# Altium schematic symbol library kmilo17pet-LT_OpAmp_LT1000.SchLib: 2280 symbols (part 15 of 79)
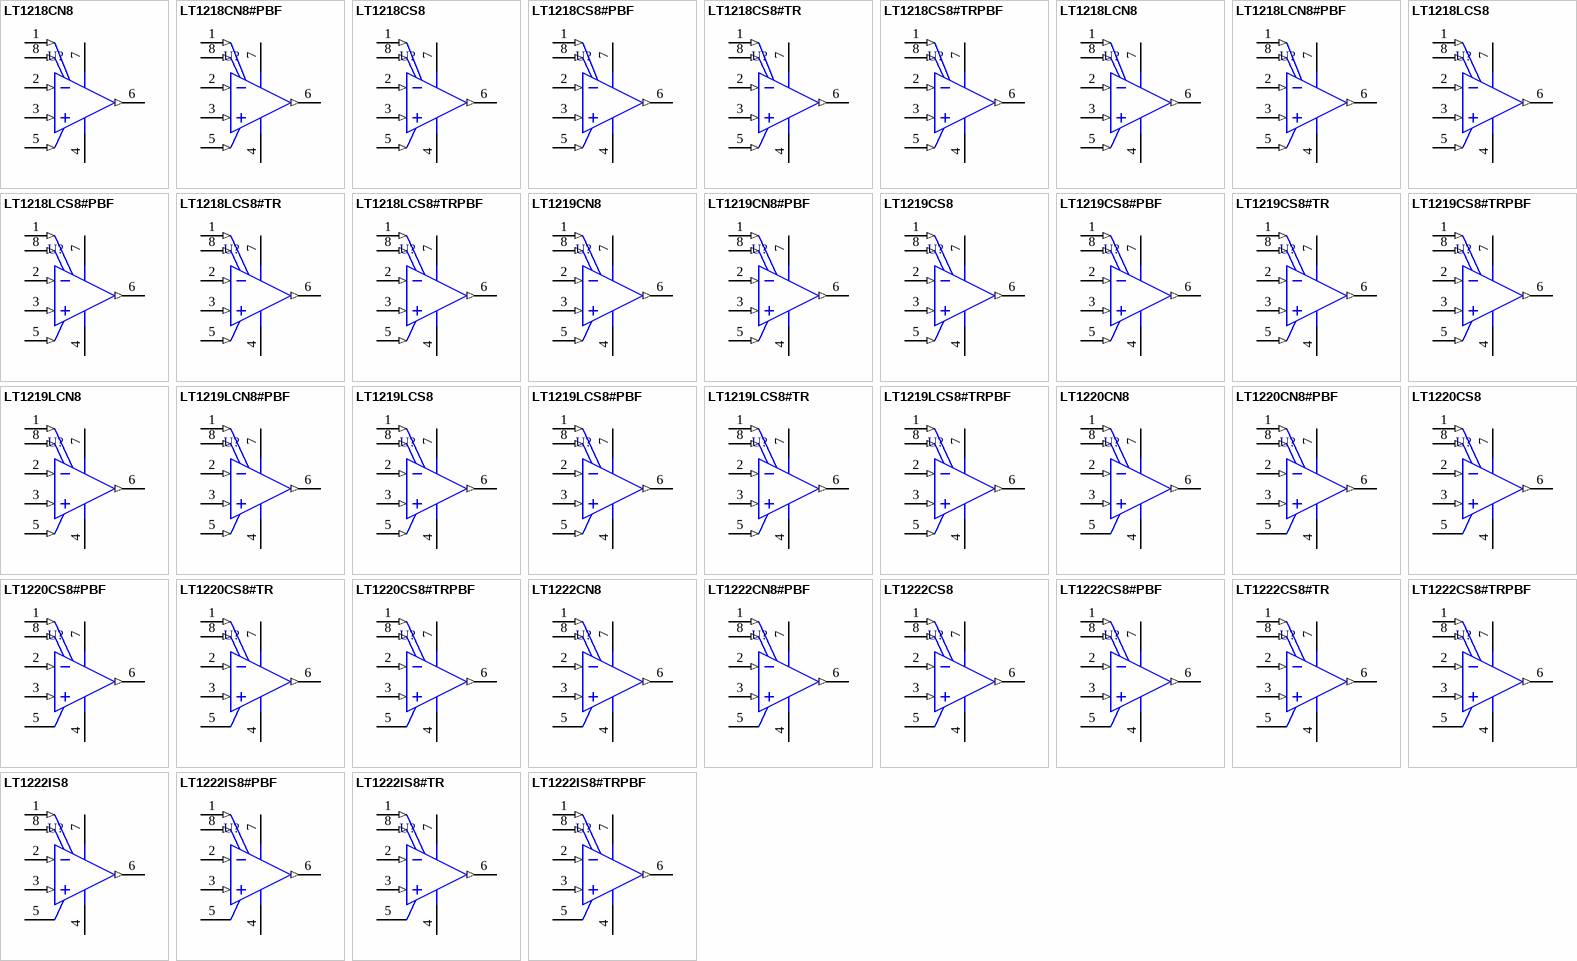
[diagram p119: symbols LT1218CN8 to LT1222IS8#TRPBF]

## LT1222CN8
designator U?
Single Channel, Fast Setting Time, High Speed Operational Amplifier, Gain >10, 500 MHz Typical GBW, 200 V/us Typical SR, 5 to 36 V, 8-Pin DIP (N8-8), Commercial; Linear Technology Part Number: LT1222; Manufacturer: Linear Technology; PartNumber: LT1222CN8; Channels (#): 1; GBW (MHz) Typical: 500; Is (mA) Typical: 8; SR (V/us) Typical: 200; Vos (mV) Typical: 0.1; Vs Max (V): 36; Vs Min (V): 5; DatasheetVersion: Rev. C; PackageVersion: Rev I; PackageReference: LT-N8-8; PackageDescription: 8-Lead PDIP, Body 10.16 x 6.48 mm, Pitch 2.54 mm; Supplier 1: Digi-Key; Supplier Part Number 1: LT1222CN8-ND; Type: VFB; Mounting Technology: Surface Mount; ComponentLink1Description: Manufacturer URL; ComponentLink1URL: http://www.linear.com/; ComponentLink2Description: Datasheet; ComponentLink2URL: http://cds.linear.com/docs/en/datasheet/1222fc.pdf; ComponentLink3Description: Package Specification; ComponentLink3URL: http://cds.linear.com/docs/en/packaging/05081510_I_N8.pdf
footprint LT-N8-8 (DIP, 8-Leads, Body 10.16x6.48mm, Pitch 2.54mm)
pins: 1 NULL (in), 2 -IN (in), 3 +IN (in), 4 V- (power), 5 COMP, 6 VOUT (out), 7 V+ (power), 8 NULL (in)

## LT1222CN8#PBF
designator U?
Single Channel, Fast Setting Time, High Speed Operational Amplifier, Gain >10, 500 MHz Typical GBW, 200 V/us Typical SR, 5 to 36 V, 8-Pin DIP (N8-8), Commercial, Pb-Free; Linear Technology Part Number: LT1222; Manufacturer: Linear Technology; PartNumber: LT1222CN8#PBF; Channels (#): 1; GBW (MHz) Typical: 500; Is (mA) Typical: 8; SR (V/us) Typical: 200; Vos (mV) Typical: 0.1; Vs Max (V): 36; Vs Min (V): 5; DatasheetVersion: Rev. C; PackageVersion: Rev I; PackageReference: LT-N8-8; PackageDescription: 8-Lead PDIP, Body 10.16 x 6.48 mm, Pitch 2.54 mm; Supplier 1: Digi-Key; Supplier Part Number 1: LT1222CN8#PBF-ND; Supplier 2: Farnell; Supplier Part Number 2: 1330620; Supplier 3: Newark; Supplier Part Number 3: 57M2803; RoHS: Pb-Free; Type: VFB; Mounting Technology: Through Hole; ComponentLink1Description: Manufacturer URL; ComponentLink1URL: http://www.linear.com/; ComponentLink2Description: Datasheet; ComponentLink2URL: http://cds.linear.com/docs/en/datasheet/1222fc.pdf; ComponentLink3Description: Package Specification; ComponentLink3URL: http://cds.linear.com/docs/en/packaging/05081510_I_N8.pdf
footprint LT-N8-8 (DIP, 8-Leads, Body 10.16x6.48mm, Pitch 2.54mm)
pins: 1 NULL (in), 2 -IN (in), 3 +IN (in), 4 V- (power), 5 COMP, 6 VOUT (out), 7 V+ (power), 8 NULL (in)

## LT1222CS8
designator U?
Single Channel, Fast Setting Time, High Speed Operational Amplifier, Gain >10, 500 MHz Typical GBW, 200 V/us Typical SR, 5 to 36 V, 8-Pin SOIC (S8-8), Commercial; Linear Technology Part Number: LT1222; Manufacturer: Linear Technology; PartNumber: LT1222CS8; Channels (#): 1; GBW (MHz) Typical: 500; Is (mA) Typical: 8; SR (V/us) Typical: 200; Vos (mV) Typical: 0.1; Vs Max (V): 36; Vs Min (V): 5; DatasheetVersion: Rev. C; PackageVersion: Rev G; PackageReference: LT-S8-8; PackageDescription: 8-Pin Plastic Small Outline, Body 4.9 x 3.9 mm, Pitch 1.27 mm; Supplier 1: Digi-Key; Supplier Part Number 1: LT1222CS8-ND; Type: VFB; Mounting Technology: Surface Mount; ComponentLink1Description: Manufacturer URL; ComponentLink1URL: http://www.linear.com/; ComponentLink2Description: Datasheet; ComponentLink2URL: http://cds.linear.com/docs/en/datasheet/1222fc.pdf; ComponentLink3Description: Package Specification; ComponentLink3URL: http://cds.linear.com/docs/en/packaging/05081610_G_SO8.pdf
footprint LT-S8-8_N (SOIC, 8-Leads, Body 4.9x3.9mm, Pitch 1.27mm, IPC Medium Density)
footprint LT-S8-8_L (SOIC, 8-Leads, Body 4.9x3.9mm, Pitch 1.27mm, IPC High Density)
footprint LT-S8-8_M (SOIC, 8-Leads, Body 4.9x3.9mm, Pitch 1.27mm, IPC Low Density)
pins: 1 NULL (in), 2 -IN (in), 3 +IN (in), 4 V- (power), 5 COMP, 6 VOUT (out), 7 V+ (power), 8 NULL (in)

## LT1222CS8#PBF
designator U?
Single Channel, Fast Setting Time, High Speed Operational Amplifier, Gain >10, 500 MHz Typical GBW, 200 V/us Typical SR, 5 to 36 V, 8-Pin SOIC (S8-8), Commercial, Pb-Free; Linear Technology Part Number: LT1222; Manufacturer: Linear Technology; PartNumber: LT1222CS8#PBF; Channels (#): 1; GBW (MHz) Typical: 500; Is (mA) Typical: 8; SR (V/us) Typical: 200; Vos (mV) Typical: 0.1; Vs Max (V): 36; Vs Min (V): 5; DatasheetVersion: Rev. C; PackageVersion: Rev G; PackageReference: LT-S8-8; PackageDescription: 8-Pin Plastic Small Outline, Body 4.9 x 3.9 mm, Pitch 1.27 mm; Supplier 1: Digi-Key; Supplier Part Number 1: LT1222CS8#PBF-ND; Supplier 2: Newark; Supplier Part Number 2: 57M2805; RoHS: Pb-Free; Type: VFB; Mounting Technology: Surface Mount; ComponentLink1Description: Manufacturer URL; ComponentLink1URL: http://www.linear.com/; ComponentLink2Description: Datasheet; ComponentLink2URL: http://cds.linear.com/docs/en/datasheet/1222fc.pdf; ComponentLink3Description: Package Specification; ComponentLink3URL: http://cds.linear.com/docs/en/packaging/05081610_G_SO8.pdf
footprint LT-S8-8_N (SOIC, 8-Leads, Body 4.9x3.9mm, Pitch 1.27mm, IPC Medium Density)
footprint LT-S8-8_L (SOIC, 8-Leads, Body 4.9x3.9mm, Pitch 1.27mm, IPC High Density)
footprint LT-S8-8_M (SOIC, 8-Leads, Body 4.9x3.9mm, Pitch 1.27mm, IPC Low Density)
pins: 1 NULL (in), 2 -IN (in), 3 +IN (in), 4 V- (power), 5 COMP, 6 VOUT (out), 7 V+ (power), 8 NULL (in)

## LT1222CS8#TR
designator U?
Single Channel, Fast Setting Time, High Speed Operational Amplifier, Gain >10, 500 MHz Typical GBW, 200 V/us Typical SR, 5 to 36 V, 8-Pin SOIC (S8-8), Commercial, Reel; Linear Technology Part Number: LT1222; Manufacturer: Linear Technology; PartNumber: LT1222CS8#TR; Channels (#): 1; GBW (MHz) Typical: 500; Is (mA) Typical: 8; SR (V/us) Typical: 200; Vos (mV) Typical: 0.1; Vs Max (V): 36; Vs Min (V): 5; DatasheetVersion: Rev. C; PackageVersion: Rev G; PackageReference: LT-S8-8; PackageDescription: 8-Pin Plastic Small Outline, Body 4.9 x 3.9 mm, Pitch 1.27 mm; Supplier 1: Digi-Key; Supplier Part Number 1: LT1222CS8#TR-ND; Packing: Reel; Type: VFB; Mounting Technology: Surface Mount; ComponentLink1Description: Manufacturer URL; ComponentLink1URL: http://www.linear.com/; ComponentLink2Description: Datasheet; ComponentLink2URL: http://cds.linear.com/docs/en/datasheet/1222fc.pdf; ComponentLink3Description: Package Specification; ComponentLink3URL: http://cds.linear.com/docs/en/packaging/05081610_G_SO8.pdf
footprint LT-S8-8_N (SOIC, 8-Leads, Body 4.9x3.9mm, Pitch 1.27mm, IPC Medium Density)
footprint LT-S8-8_L (SOIC, 8-Leads, Body 4.9x3.9mm, Pitch 1.27mm, IPC High Density)
footprint LT-S8-8_M (SOIC, 8-Leads, Body 4.9x3.9mm, Pitch 1.27mm, IPC Low Density)
pins: 1 NULL (in), 2 -IN (in), 3 +IN (in), 4 V- (power), 5 COMP, 6 VOUT (out), 7 V+ (power), 8 NULL (in)

## LT1222CS8#TRPBF
designator U?
Single Channel, Fast Setting Time, High Speed Operational Amplifier, Gain >10, 500 MHz Typical GBW, 200 V/us Typical SR, 5 to 36 V, 8-Pin SOIC (S8-8), Commercial, Pb-Free, Reel; Linear Technology Part Number: LT1222; Manufacturer: Linear Technology; PartNumber: LT1222CS8#TRPBF; Channels (#): 1; GBW (MHz) Typical: 500; Is (mA) Typical: 8; SR (V/us) Typical: 200; Vos (mV) Typical: 0.1; Vs Max (V): 36; Vs Min (V): 5; DatasheetVersion: Rev. C; PackageVersion: Rev G; PackageReference: LT-S8-8; PackageDescription: 8-Pin Plastic Small Outline, Body 4.9 x 3.9 mm, Pitch 1.27 mm; Supplier 1: Digi-Key; Supplier Part Number 1: LT1222CS8#TRPBF-ND; Packing: Reel; RoHS: Pb-Free; Type: VFB; Mounting Technology: Surface Mount; ComponentLink1Description: Manufacturer URL; ComponentLink1URL: http://www.linear.com/; ComponentLink2Description: Datasheet; ComponentLink2URL: http://cds.linear.com/docs/en/datasheet/1222fc.pdf; ComponentLink3Description: Package Specification; ComponentLink3URL: http://cds.linear.com/docs/en/packaging/05081610_G_SO8.pdf
footprint LT-S8-8_N (SOIC, 8-Leads, Body 4.9x3.9mm, Pitch 1.27mm, IPC Medium Density)
footprint LT-S8-8_L (SOIC, 8-Leads, Body 4.9x3.9mm, Pitch 1.27mm, IPC High Density)
footprint LT-S8-8_M (SOIC, 8-Leads, Body 4.9x3.9mm, Pitch 1.27mm, IPC Low Density)
pins: 1 NULL (in), 2 -IN (in), 3 +IN (in), 4 V- (power), 5 COMP, 6 VOUT (out), 7 V+ (power), 8 NULL (in)

## LT1222IS8
designator U?
Single Channel, Fast Setting Time, High Speed Operational Amplifier, Gain >10, 500 MHz Typical GBW, 200 V/us Typical SR, 5 to 36 V, 8-Pin SOIC (S8-8), Industrial; Linear Technology Part Number: LT1222; Manufacturer: Linear Technology; PartNumber: LT1222IS8; Channels (#): 1; GBW (MHz) Typical: 500; Is (mA) Typical: 8; SR (V/us) Typical: 200; Vos (mV) Typical: 0.1; Vs Max (V): 36; Vs Min (V): 5; DatasheetVersion: Rev. C; PackageVersion: Rev G; PackageReference: LT-S8-8; PackageDescription: 8-Pin Plastic Small Outline, Body 4.9 x 3.9 mm, Pitch 1.27 mm; Supplier 1: Digi-Key; Supplier Part Number 1: LT1222IS8-ND; Type: VFB; Mounting Technology: Surface Mount; ComponentLink1Description: Manufacturer URL; ComponentLink1URL: http://www.linear.com/; ComponentLink2Description: Datasheet; ComponentLink2URL: http://cds.linear.com/docs/en/datasheet/1222fc.pdf; ComponentLink3Description: Package Specification; ComponentLink3URL: http://cds.linear.com/docs/en/packaging/05081610_G_SO8.pdf
footprint LT-S8-8_N (SOIC, 8-Leads, Body 4.9x3.9mm, Pitch 1.27mm, IPC Medium Density)
footprint LT-S8-8_L (SOIC, 8-Leads, Body 4.9x3.9mm, Pitch 1.27mm, IPC High Density)
footprint LT-S8-8_M (SOIC, 8-Leads, Body 4.9x3.9mm, Pitch 1.27mm, IPC Low Density)
pins: 1 NULL (in), 2 -IN (in), 3 +IN (in), 4 V- (power), 5 COMP, 6 VOUT (out), 7 V+ (power), 8 NULL (in)

## LT1222IS8#PBF
designator U?
Single Channel, Fast Setting Time, High Speed Operational Amplifier, Gain >10, 500 MHz Typical GBW, 200 V/us Typical SR, 5 to 36 V, 8-Pin SOIC (S8-8), Industrial, Pb-Free; Linear Technology Part Number: LT1222; Manufacturer: Linear Technology; PartNumber: LT1222IS8#PBF; Channels (#): 1; GBW (MHz) Typical: 500; Is (mA) Typical: 8; SR (V/us) Typical: 200; Vos (mV) Typical: 0.1; Vs Max (V): 36; Vs Min (V): 5; DatasheetVersion: Rev. C; PackageVersion: Rev G; PackageReference: LT-S8-8; PackageDescription: 8-Pin Plastic Small Outline, Body 4.9 x 3.9 mm, Pitch 1.27 mm; Supplier 1: Digi-Key; Supplier Part Number 1: LT1222IS8#PBF-ND; RoHS: Pb-Free; Type: VFB; Mounting Technology: Surface Mount; ComponentLink1Description: Manufacturer URL; ComponentLink1URL: http://www.linear.com/; ComponentLink2Description: Datasheet; ComponentLink2URL: http://cds.linear.com/docs/en/datasheet/1222fc.pdf; ComponentLink3Description: Package Specification; ComponentLink3URL: http://cds.linear.com/docs/en/packaging/05081610_G_SO8.pdf
footprint LT-S8-8_N (SOIC, 8-Leads, Body 4.9x3.9mm, Pitch 1.27mm, IPC Medium Density)
footprint LT-S8-8_L (SOIC, 8-Leads, Body 4.9x3.9mm, Pitch 1.27mm, IPC High Density)
footprint LT-S8-8_M (SOIC, 8-Leads, Body 4.9x3.9mm, Pitch 1.27mm, IPC Low Density)
pins: 1 NULL (in), 2 -IN (in), 3 +IN (in), 4 V- (power), 5 COMP, 6 VOUT (out), 7 V+ (power), 8 NULL (in)

## LT1222IS8#TR
designator U?
Single Channel, Fast Setting Time, High Speed Operational Amplifier, Gain >10, 500 MHz Typical GBW, 200 V/us Typical SR, 5 to 36 V, 8-Pin SOIC (S8-8), Industrial, Reel; Linear Technology Part Number: LT1222; Manufacturer: Linear Technology; PartNumber: LT1222IS8#TR; Channels (#): 1; GBW (MHz) Typical: 500; Is (mA) Typical: 8; SR (V/us) Typical: 200; Vos (mV) Typical: 0.1; Vs Max (V): 36; Vs Min (V): 5; DatasheetVersion: Rev. C; PackageVersion: Rev G; PackageReference: LT-S8-8; PackageDescription: 8-Pin Plastic Small Outline, Body 4.9 x 3.9 mm, Pitch 1.27 mm; Supplier 1: Digi-Key; Supplier Part Number 1: LT1222IS8#TR-ND; Supplier 2: Newark; Supplier Part Number 2: 57M2810; Packing: Reel; Type: VFB; Mounting Technology: Surface Mount; ComponentLink1Description: Manufacturer URL; ComponentLink1URL: http://www.linear.com/; ComponentLink2Description: Datasheet; ComponentLink2URL: http://cds.linear.com/docs/en/datasheet/1222fc.pdf; ComponentLink3Description: Package Specification; ComponentLink3URL: http://cds.linear.com/docs/en/packaging/05081610_G_SO8.pdf
footprint LT-S8-8_N (SOIC, 8-Leads, Body 4.9x3.9mm, Pitch 1.27mm, IPC Medium Density)
footprint LT-S8-8_L (SOIC, 8-Leads, Body 4.9x3.9mm, Pitch 1.27mm, IPC High Density)
footprint LT-S8-8_M (SOIC, 8-Leads, Body 4.9x3.9mm, Pitch 1.27mm, IPC Low Density)
pins: 1 NULL (in), 2 -IN (in), 3 +IN (in), 4 V- (power), 5 COMP, 6 VOUT (out), 7 V+ (power), 8 NULL (in)

## LT1222IS8#TRPBF
designator U?
Single Channel, Fast Setting Time, High Speed Operational Amplifier, Gain >10, 500 MHz Typical GBW, 200 V/us Typical SR, 5 to 36 V, 8-Pin SOIC (S8-8), Industrial, Pb-Free, Reel; Linear Technology Part Number: LT1222; Manufacturer: Linear Technology; PartNumber: LT1222IS8#TRPBF; Channels (#): 1; GBW (MHz) Typical: 500; Is (mA) Typical: 8; SR (V/us) Typical: 200; Vos (mV) Typical: 0.1; Vs Max (V): 36; Vs Min (V): 5; DatasheetVersion: Rev. C; PackageVersion: Rev G; PackageReference: LT-S8-8; PackageDescription: 8-Pin Plastic Small Outline, Body 4.9 x 3.9 mm, Pitch 1.27 mm; Supplier 1: Digi-Key; Supplier Part Number 1: LT1222IS8#TRPBF-ND; Packing: Reel; RoHS: Pb-Free; Type: VFB; Mounting Technology: Surface Mount; ComponentLink1Description: Manufacturer URL; ComponentLink1URL: http://www.linear.com/; ComponentLink2Description: Datasheet; ComponentLink2URL: http://cds.linear.com/docs/en/datasheet/1222fc.pdf; ComponentLink3Description: Package Specification; ComponentLink3URL: http://cds.linear.com/docs/en/packaging/05081610_G_SO8.pdf
footprint LT-S8-8_N (SOIC, 8-Leads, Body 4.9x3.9mm, Pitch 1.27mm, IPC Medium Density)
footprint LT-S8-8_L (SOIC, 8-Leads, Body 4.9x3.9mm, Pitch 1.27mm, IPC High Density)
footprint LT-S8-8_M (SOIC, 8-Leads, Body 4.9x3.9mm, Pitch 1.27mm, IPC Low Density)
pins: 1 NULL (in), 2 -IN (in), 3 +IN (in), 4 V- (power), 5 COMP, 6 VOUT (out), 7 V+ (power), 8 NULL (in)

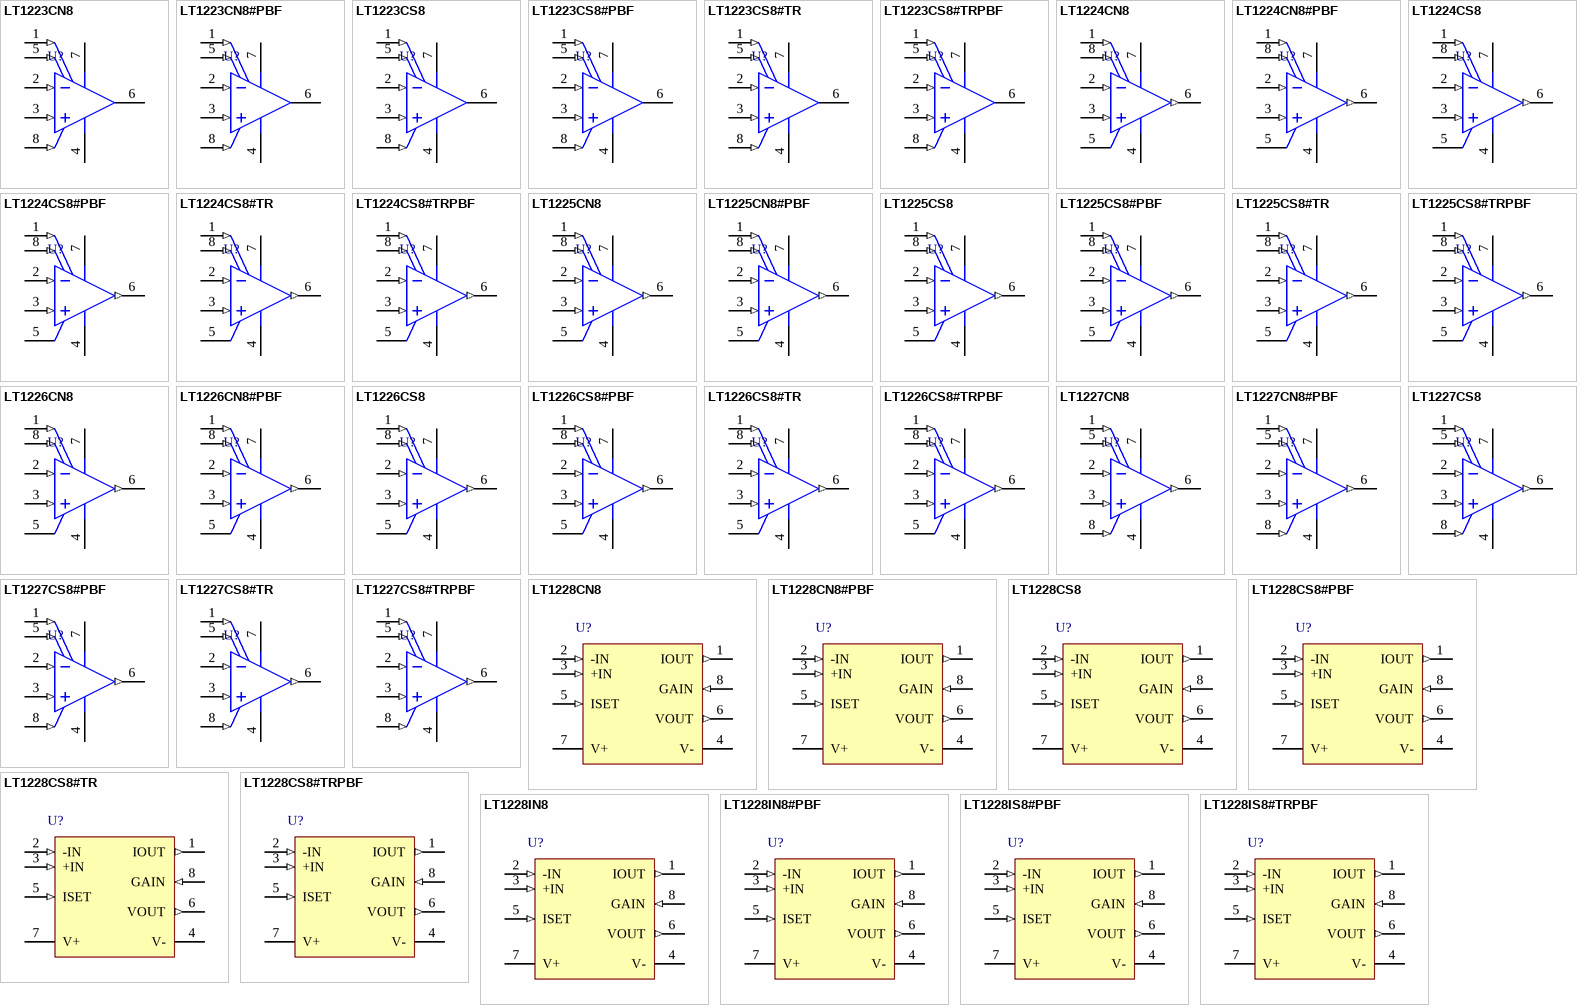
[diagram p21: symbols LT1223CN8 to LT1228IS8#TRPBF]

## LT1223CN8
designator U?
Single Channel, High Slew Rate Operational Amplifier, High IOut, 100 MHz Typical GBW, 1000 V/us Typical SR, 5 to 36 V, 8-Pin DIP (N8-8), Commercial; Linear Technology Part Number: LT1223; Manufacturer: Linear Technology; PartNumber: LT1223CN8; Channels (#): 1; GBW (MHz) Typical: 100; Is (mA) Typical: 6; SR (V/us) Typical: 1000; Vs Max (V): 36; Vs Min (V): 5; DatasheetVersion: Rev. B; PackageVersion: Rev I; PackageReference: LT-N8-8; PackageDescription: 8-Lead PDIP, Body 10.16 x 6.48 mm, Pitch 2.54 mm; Supplier 1: Newark; Supplier Part Number 1: 57M2812; Type: CFA; Vos (mV) Typical: 1; Mounting Technology: Surface Mount; ComponentLink1Description: Manufacturer URL; ComponentLink1URL: http://www.linear.com/; ComponentLink2Description: Datasheet; ComponentLink2URL: http://cds.linear.com/docs/en/datasheet/1223fb.pdf; ComponentLink3Description: Package Specification; ComponentLink3URL: http://cds.linear.com/docs/en/packaging/05081510_I_N8.pdf
footprint LT-N8-8 (DIP, 8-Leads, Body 10.16x6.48mm, Pitch 2.54mm)
pins: 1 NULL (in), 2 -IN (in), 3 +IN (in), 4 V- (power), 5 NULL (in), 6 OUT (hiz), 7 V+ (power), 8 SHUTDOWN (in)

## LT1223CN8#PBF
designator U?
Single Channel, High Slew Rate Operational Amplifier, High IOut, 100 MHz Typical GBW, 1000 V/us Typical SR, 5 to 36 V, 8-Pin DIP (N8-8), Commercial, Pb-Free; Linear Technology Part Number: LT1223; Manufacturer: Linear Technology; PartNumber: LT1223CN8#PBF; Channels (#): 1; GBW (MHz) Typical: 100; Is (mA) Typical: 6; SR (V/us) Typical: 1000; Vs Max (V): 36; Vs Min (V): 5; DatasheetVersion: Rev. B; PackageVersion: Rev I; PackageReference: LT-N8-8; PackageDescription: 8-Lead PDIP, Body 10.16 x 6.48 mm, Pitch 2.54 mm; Supplier 1: Digi-Key; Supplier Part Number 1: LT1223CN8#PBF-ND; Supplier 2: Farnell; Supplier Part Number 2: 1330621; Supplier 3: Newark; Supplier Part Number 3: 57M2813; RoHS: Pb-Free; Type: CFA; Vos (mV) Typical: 1; Mounting Technology: Through Hole; ComponentLink1Description: Manufacturer URL; ComponentLink1URL: http://www.linear.com/; ComponentLink2Description: Datasheet; ComponentLink2URL: http://cds.linear.com/docs/en/datasheet/1223fb.pdf; ComponentLink3Description: Package Specification; ComponentLink3URL: http://cds.linear.com/docs/en/packaging/05081510_I_N8.pdf
footprint LT-N8-8 (DIP, 8-Leads, Body 10.16x6.48mm, Pitch 2.54mm)
pins: 1 NULL (in), 2 -IN (in), 3 +IN (in), 4 V- (power), 5 NULL (in), 6 OUT (hiz), 7 V+ (power), 8 SHUTDOWN (in)

## LT1223CS8
designator U?
Single Channel, High Slew Rate Operational Amplifier, High IOut, 100 MHz Typical GBW, 1000 V/us Typical SR, 5 to 36 V, 8-Pin SOIC (S8-8), Commercial; Linear Technology Part Number: LT1223; Manufacturer: Linear Technology; PartNumber: LT1223CS8; Channels (#): 1; GBW (MHz) Typical: 100; Is (mA) Typical: 6; SR (V/us) Typical: 1000; Vs Max (V): 36; Vs Min (V): 5; DatasheetVersion: Rev. B; PackageVersion: Rev G; PackageReference: LT-S8-8; PackageDescription: 8-Pin Plastic Small Outline, Body 4.9 x 3.9 mm, Pitch 1.27 mm; Supplier 1: Digi-Key; Supplier Part Number 1: LT1223CS8-ND; Type: CFA; Vos (mV) Typical: 1; Mounting Technology: Surface Mount; ComponentLink1Description: Manufacturer URL; ComponentLink1URL: http://www.linear.com/; ComponentLink2Description: Datasheet; ComponentLink2URL: http://cds.linear.com/docs/en/datasheet/1223fb.pdf; ComponentLink3Description: Package Specification; ComponentLink3URL: http://cds.linear.com/docs/en/packaging/05081610_G_SO8.pdf
footprint LT-S8-8_N (SOIC, 8-Leads, Body 4.9x3.9mm, Pitch 1.27mm, IPC Medium Density)
footprint LT-S8-8_L (SOIC, 8-Leads, Body 4.9x3.9mm, Pitch 1.27mm, IPC High Density)
footprint LT-S8-8_M (SOIC, 8-Leads, Body 4.9x3.9mm, Pitch 1.27mm, IPC Low Density)
pins: 1 NULL (in), 2 -IN (in), 3 +IN (in), 4 V- (power), 5 NULL (in), 6 OUT (hiz), 7 V+ (power), 8 SHUTDOWN (in)

## LT1223CS8#PBF
designator U?
Single Channel, High Slew Rate Operational Amplifier, High IOut, 100 MHz Typical GBW, 1000 V/us Typical SR, 5 to 36 V, 8-Pin SOIC (S8-8), Commercial, Pb-Free; Linear Technology Part Number: LT1223; Manufacturer: Linear Technology; PartNumber: LT1223CS8#PBF; Channels (#): 1; GBW (MHz) Typical: 100; Is (mA) Typical: 6; SR (V/us) Typical: 1000; Vs Max (V): 36; Vs Min (V): 5; DatasheetVersion: Rev. B; PackageVersion: Rev G; PackageReference: LT-S8-8; PackageDescription: 8-Pin Plastic Small Outline, Body 4.9 x 3.9 mm, Pitch 1.27 mm; Supplier 1: Digi-Key; Supplier Part Number 1: LT1223CS8#PBF-ND; Supplier 2: Farnell; Supplier Part Number 2: 2238148; Supplier 3: Newark; Supplier Part Number 3: 57M2815; RoHS: Pb-Free; Type: CFA; Vos (mV) Typical: 1; Mounting Technology: Surface Mount; ComponentLink1Description: Manufacturer URL; ComponentLink1URL: http://www.linear.com/; ComponentLink2Description: Datasheet; ComponentLink2URL: http://cds.linear.com/docs/en/datasheet/1223fb.pdf; ComponentLink3Description: Package Specification; ComponentLink3URL: http://cds.linear.com/docs/en/packaging/05081610_G_SO8.pdf
footprint LT-S8-8_N (SOIC, 8-Leads, Body 4.9x3.9mm, Pitch 1.27mm, IPC Medium Density)
footprint LT-S8-8_L (SOIC, 8-Leads, Body 4.9x3.9mm, Pitch 1.27mm, IPC High Density)
footprint LT-S8-8_M (SOIC, 8-Leads, Body 4.9x3.9mm, Pitch 1.27mm, IPC Low Density)
pins: 1 NULL (in), 2 -IN (in), 3 +IN (in), 4 V- (power), 5 NULL (in), 6 OUT (hiz), 7 V+ (power), 8 SHUTDOWN (in)

## LT1223CS8#TR
designator U?
Single Channel, High Slew Rate Operational Amplifier, High IOut, 100 MHz Typical GBW, 1000 V/us Typical SR, 5 to 36 V, 8-Pin SOIC (S8-8), Commercial, Reel; Linear Technology Part Number: LT1223; Manufacturer: Linear Technology; PartNumber: LT1223CS8#TR; Channels (#): 1; GBW (MHz) Typical: 100; Is (mA) Typical: 6; SR (V/us) Typical: 1000; Vs Max (V): 36; Vs Min (V): 5; DatasheetVersion: Rev. B; PackageVersion: Rev G; PackageReference: LT-S8-8; PackageDescription: 8-Pin Plastic Small Outline, Body 4.9 x 3.9 mm, Pitch 1.27 mm; Supplier 1: Digi-Key; Supplier Part Number 1: LT1223CS8#TR-ND; Packing: Reel; Type: CFA; Vos (mV) Typical: 1; Mounting Technology: Surface Mount; ComponentLink1Description: Manufacturer URL; ComponentLink1URL: http://www.linear.com/; ComponentLink2Description: Datasheet; ComponentLink2URL: http://cds.linear.com/docs/en/datasheet/1223fb.pdf; ComponentLink3Description: Package Specification; ComponentLink3URL: http://cds.linear.com/docs/en/packaging/05081610_G_SO8.pdf
footprint LT-S8-8_N (SOIC, 8-Leads, Body 4.9x3.9mm, Pitch 1.27mm, IPC Medium Density)
footprint LT-S8-8_L (SOIC, 8-Leads, Body 4.9x3.9mm, Pitch 1.27mm, IPC High Density)
footprint LT-S8-8_M (SOIC, 8-Leads, Body 4.9x3.9mm, Pitch 1.27mm, IPC Low Density)
pins: 1 NULL (in), 2 -IN (in), 3 +IN (in), 4 V- (power), 5 NULL (in), 6 OUT (hiz), 7 V+ (power), 8 SHUTDOWN (in)

## LT1223CS8#TRPBF
designator U?
Single Channel, High Slew Rate Operational Amplifier, High IOut, 100 MHz Typical GBW, 1000 V/us Typical SR, 5 to 36 V, 8-Pin SOIC (S8-8), Commercial, Pb-Free, Reel; Linear Technology Part Number: LT1223; Manufacturer: Linear Technology; PartNumber: LT1223CS8#TRPBF; Channels (#): 1; GBW (MHz) Typical: 100; Is (mA) Typical: 6; SR (V/us) Typical: 1000; Vs Max (V): 36; Vs Min (V): 5; DatasheetVersion: Rev. B; PackageVersion: Rev G; PackageReference: LT-S8-8; PackageDescription: 8-Pin Plastic Small Outline, Body 4.9 x 3.9 mm, Pitch 1.27 mm; Supplier 1: Digi-Key; Supplier Part Number 1: LT1223CS8#TRPBF-ND; Packing: Reel; RoHS: Pb-Free; Type: CFA; Vos (mV) Typical: 1; Mounting Technology: Surface Mount; ComponentLink1Description: Manufacturer URL; ComponentLink1URL: http://www.linear.com/; ComponentLink2Description: Datasheet; ComponentLink2URL: http://cds.linear.com/docs/en/datasheet/1223fb.pdf; ComponentLink3Description: Package Specification; ComponentLink3URL: http://cds.linear.com/docs/en/packaging/05081610_G_SO8.pdf
footprint LT-S8-8_N (SOIC, 8-Leads, Body 4.9x3.9mm, Pitch 1.27mm, IPC Medium Density)
footprint LT-S8-8_L (SOIC, 8-Leads, Body 4.9x3.9mm, Pitch 1.27mm, IPC High Density)
footprint LT-S8-8_M (SOIC, 8-Leads, Body 4.9x3.9mm, Pitch 1.27mm, IPC Low Density)
pins: 1 NULL (in), 2 -IN (in), 3 +IN (in), 4 V- (power), 5 NULL (in), 6 OUT (hiz), 7 V+ (power), 8 SHUTDOWN (in)

## LT1224CN8
designator U?
Single Channel, Operational Amplifier, 10 V Peak Full Power BW to 6.4 MHz, 45 MHz Typical GBW, 400 V/us Typical SR, 5 to 36 V, 8-Pin DIP (N8-8), Commercial; Linear Technology Part Number: LT1224; Manufacturer: Linear Technology; PartNumber: LT1224CN8; Channels (#): 1; GBW (MHz) Typical: 45; Is (mA) Typical: 7; SR (V/us) Typical: 400; Vos (mV) Typical: 0.5; Vs Max (V): 36; Vs Min (V): 5; DatasheetVersion: Rev. A; PackageVersion: Rev I; PackageReference: LT-N8-8; PackageDescription: 8-Lead PDIP, Body 10.16 x 6.48 mm, Pitch 2.54 mm; Supplier 1: Digi-Key; Supplier Part Number 1: LT1224CN8-ND; Type: VFB; Mounting Technology: Surface Mount; ComponentLink1Description: Manufacturer URL; ComponentLink1URL: http://www.linear.com/; ComponentLink2Description: Datasheet; ComponentLink2URL: http://cds.linear.com/docs/en/datasheet/lt1224.pdf; ComponentLink3Description: Package Specification; ComponentLink3URL: http://cds.linear.com/docs/en/packaging/05081510_I_N8.pdf
footprint LT-N8-8 (DIP, 8-Leads, Body 10.16x6.48mm, Pitch 2.54mm)
pins: 1 NULL (in), 2 -IN (in), 3 +IN (in), 4 V- (power), 5 NC, 6 OUT (out), 7 V+ (power), 8 NULL (in)

## LT1224CN8#PBF
designator U?
Single Channel, Operational Amplifier, 10 V Peak Full Power BW to 6.4 MHz, 45 MHz Typical GBW, 400 V/us Typical SR, 5 to 36 V, 8-Pin DIP (N8-8), Commercial, Pb-Free; Linear Technology Part Number: LT1224; Manufacturer: Linear Technology; PartNumber: LT1224CN8#PBF; Channels (#): 1; GBW (MHz) Typical: 45; Is (mA) Typical: 7; SR (V/us) Typical: 400; Vos (mV) Typical: 0.5; Vs Max (V): 36; Vs Min (V): 5; DatasheetVersion: Rev. A; PackageVersion: Rev I; PackageReference: LT-N8-8; PackageDescription: 8-Lead PDIP, Body 10.16 x 6.48 mm, Pitch 2.54 mm; Supplier 1: Digi-Key; Supplier Part Number 1: LT1224CN8#PBF-ND; Supplier 2: Newark; Supplier Part Number 2: 57M2819; RoHS: Pb-Free; Type: VFB; Mounting Technology: Through Hole; ComponentLink1Description: Manufacturer URL; ComponentLink1URL: http://www.linear.com/; ComponentLink2Description: Datasheet; ComponentLink2URL: http://cds.linear.com/docs/en/datasheet/lt1224.pdf; ComponentLink3Description: Package Specification; ComponentLink3URL: http://cds.linear.com/docs/en/packaging/05081510_I_N8.pdf
footprint LT-N8-8 (DIP, 8-Leads, Body 10.16x6.48mm, Pitch 2.54mm)
pins: 1 NULL (in), 2 -IN (in), 3 +IN (in), 4 V- (power), 5 NC, 6 OUT (out), 7 V+ (power), 8 NULL (in)

## LT1224CS8
designator U?
Single Channel, Operational Amplifier, 10 V Peak Full Power BW to 6.4 MHz, 45 MHz Typical GBW, 400 V/us Typical SR, 5 to 36 V, 8-Pin SOIC (S8-8), Commercial; Linear Technology Part Number: LT1224; Manufacturer: Linear Technology; PartNumber: LT1224CS8; Channels (#): 1; GBW (MHz) Typical: 45; Is (mA) Typical: 7; SR (V/us) Typical: 400; Vos (mV) Typical: 0.5; Vs Max (V): 36; Vs Min (V): 5; DatasheetVersion: Rev. A; PackageVersion: Rev G; PackageReference: LT-S8-8; PackageDescription: 8-Pin Plastic Small Outline, Body 4.9 x 3.9 mm, Pitch 1.27 mm; Supplier 1: Digi-Key; Supplier Part Number 1: LT1224CS8-ND; Type: VFB; Mounting Technology: Surface Mount; ComponentLink1Description: Manufacturer URL; ComponentLink1URL: http://www.linear.com/; ComponentLink2Description: Datasheet; ComponentLink2URL: http://cds.linear.com/docs/en/datasheet/lt1224.pdf; ComponentLink3Description: Package Specification; ComponentLink3URL: http://cds.linear.com/docs/en/packaging/05081610_G_SO8.pdf
footprint LT-S8-8_N (SOIC, 8-Leads, Body 4.9x3.9mm, Pitch 1.27mm, IPC Medium Density)
footprint LT-S8-8_L (SOIC, 8-Leads, Body 4.9x3.9mm, Pitch 1.27mm, IPC High Density)
footprint LT-S8-8_M (SOIC, 8-Leads, Body 4.9x3.9mm, Pitch 1.27mm, IPC Low Density)
pins: 1 NULL (in), 2 -IN (in), 3 +IN (in), 4 V- (power), 5 NC, 6 OUT (out), 7 V+ (power), 8 NULL (in)

## LT1224CS8#PBF
designator U?
Single Channel, Operational Amplifier, 10 V Peak Full Power BW to 6.4 MHz, 45 MHz Typical GBW, 400 V/us Typical SR, 5 to 36 V, 8-Pin SOIC (S8-8), Commercial, Pb-Free; Linear Technology Part Number: LT1224; Manufacturer: Linear Technology; PartNumber: LT1224CS8#PBF; Channels (#): 1; GBW (MHz) Typical: 45; Is (mA) Typical: 7; SR (V/us) Typical: 400; Vos (mV) Typical: 0.5; Vs Max (V): 36; Vs Min (V): 5; DatasheetVersion: Rev. A; PackageVersion: Rev G; PackageReference: LT-S8-8; PackageDescription: 8-Pin Plastic Small Outline, Body 4.9 x 3.9 mm, Pitch 1.27 mm; Supplier 1: Digi-Key; Supplier Part Number 1: LT1224CS8#PBF-ND; Supplier 2: Newark; Supplier Part Number 2: 57M2821; RoHS: Pb-Free; Type: VFB; Mounting Technology: Surface Mount; ComponentLink1Description: Manufacturer URL; ComponentLink1URL: http://www.linear.com/; ComponentLink2Description: Datasheet; ComponentLink2URL: http://cds.linear.com/docs/en/datasheet/lt1224.pdf; ComponentLink3Description: Package Specification; ComponentLink3URL: http://cds.linear.com/docs/en/packaging/05081610_G_SO8.pdf
footprint LT-S8-8_N (SOIC, 8-Leads, Body 4.9x3.9mm, Pitch 1.27mm, IPC Medium Density)
footprint LT-S8-8_L (SOIC, 8-Leads, Body 4.9x3.9mm, Pitch 1.27mm, IPC High Density)
footprint LT-S8-8_M (SOIC, 8-Leads, Body 4.9x3.9mm, Pitch 1.27mm, IPC Low Density)
pins: 1 NULL (in), 2 -IN (in), 3 +IN (in), 4 V- (power), 5 NC, 6 OUT (out), 7 V+ (power), 8 NULL (in)

## LT1224CS8#TR
designator U?
Single Channel, Operational Amplifier, 10 V Peak Full Power BW to 6.4 MHz, 45 MHz Typical GBW, 400 V/us Typical SR, 5 to 36 V, 8-Pin SOIC (S8-8), Commercial, Reel; Linear Technology Part Number: LT1224; Manufacturer: Linear Technology; PartNumber: LT1224CS8#TR; Channels (#): 1; GBW (MHz) Typical: 45; Is (mA) Typical: 7; SR (V/us) Typical: 400; Vos (mV) Typical: 0.5; Vs Max (V): 36; Vs Min (V): 5; DatasheetVersion: Rev. A; PackageVersion: Rev G; PackageReference: LT-S8-8; PackageDescription: 8-Pin Plastic Small Outline, Body 4.9 x 3.9 mm, Pitch 1.27 mm; Supplier 1: Digi-Key; Supplier Part Number 1: LT1224CS8#TR-ND; Packing: Reel; Type: VFB; Mounting Technology: Surface Mount; ComponentLink1Description: Manufacturer URL; ComponentLink1URL: http://www.linear.com/; ComponentLink2Description: Datasheet; ComponentLink2URL: http://cds.linear.com/docs/en/datasheet/lt1224.pdf; ComponentLink3Description: Package Specification; ComponentLink3URL: http://cds.linear.com/docs/en/packaging/05081610_G_SO8.pdf
footprint LT-S8-8_N (SOIC, 8-Leads, Body 4.9x3.9mm, Pitch 1.27mm, IPC Medium Density)
footprint LT-S8-8_L (SOIC, 8-Leads, Body 4.9x3.9mm, Pitch 1.27mm, IPC High Density)
footprint LT-S8-8_M (SOIC, 8-Leads, Body 4.9x3.9mm, Pitch 1.27mm, IPC Low Density)
pins: 1 NULL (in), 2 -IN (in), 3 +IN (in), 4 V- (power), 5 NC, 6 OUT (out), 7 V+ (power), 8 NULL (in)

## LT1224CS8#TRPBF
designator U?
Single Channel, Operational Amplifier, 10 V Peak Full Power BW to 6.4 MHz, 45 MHz Typical GBW, 400 V/us Typical SR, 5 to 36 V, 8-Pin SOIC (S8-8), Commercial, Pb-Free, Reel; Linear Technology Part Number: LT1224; Manufacturer: Linear Technology; PartNumber: LT1224CS8#TRPBF; Channels (#): 1; GBW (MHz) Typical: 45; Is (mA) Typical: 7; SR (V/us) Typical: 400; Vos (mV) Typical: 0.5; Vs Max (V): 36; Vs Min (V): 5; DatasheetVersion: Rev. A; PackageVersion: Rev G; PackageReference: LT-S8-8; PackageDescription: 8-Pin Plastic Small Outline, Body 4.9 x 3.9 mm, Pitch 1.27 mm; Supplier 1: Digi-Key; Supplier Part Number 1: LT1224CS8#TRPBF-ND; Packing: Reel; RoHS: Pb-Free; Type: VFB; Mounting Technology: Surface Mount; ComponentLink1Description: Manufacturer URL; ComponentLink1URL: http://www.linear.com/; ComponentLink2Description: Datasheet; ComponentLink2URL: http://cds.linear.com/docs/en/datasheet/lt1224.pdf; ComponentLink3Description: Package Specification; ComponentLink3URL: http://cds.linear.com/docs/en/packaging/05081610_G_SO8.pdf
footprint LT-S8-8_N (SOIC, 8-Leads, Body 4.9x3.9mm, Pitch 1.27mm, IPC Medium Density)
footprint LT-S8-8_L (SOIC, 8-Leads, Body 4.9x3.9mm, Pitch 1.27mm, IPC High Density)
footprint LT-S8-8_M (SOIC, 8-Leads, Body 4.9x3.9mm, Pitch 1.27mm, IPC Low Density)
pins: 1 NULL (in), 2 -IN (in), 3 +IN (in), 4 V- (power), 5 NC, 6 OUT (out), 7 V+ (power), 8 NULL (in)

## LT1225CN8
designator U?
Single Channel, Operational Amplifier, Full Power Bandwidth 13MHz of +5V, 150 MHz Typical GBW, 400 V/us Typical SR, 5 to 36 V, 8-Pin DIP (N8-8), Commercial; Linear Technology Part Number: LT1225; Manufacturer: Linear Technology; PartNumber: LT1225CN8; Channels (#): 1; GBW (MHz) Typical: 150; Is (mA) Typical: 7; SR (V/us) Typical: 400; Vos (mV) Typical: 0.5; Vs Max (V): 36; Vs Min (V): 5; DatasheetVersion: Rev. A; PackageVersion: Rev I; PackageReference: LT-N8-8; PackageDescription: 8-Lead PDIP, Body 10.16 x 6.48 mm, Pitch 2.54 mm; Supplier 1: Digi-Key; Supplier Part Number 1: LT1225CN8-ND; Type: VFB; Mounting Technology: Surface Mount; ComponentLink1Description: Manufacturer URL; ComponentLink1URL: http://www.linear.com/; ComponentLink2Description: Datasheet; ComponentLink2URL: http://cds.linear.com/docs/en/datasheet/lt1225.pdf; ComponentLink3Description: Package Specification; ComponentLink3URL: http://cds.linear.com/docs/en/packaging/05081510_I_N8.pdf
footprint LT-N8-8 (DIP, 8-Leads, Body 10.16x6.48mm, Pitch 2.54mm)
pins: 1 NULL (in), 2 -IN (in), 3 +IN (in), 4 V- (power), 5 NC, 6 OUT (out), 7 V+ (power), 8 NULL (in)

## LT1225CN8#PBF
designator U?
Single Channel, Operational Amplifier, Full Power Bandwidth 13MHz of +5V, 150 MHz Typical GBW, 400 V/us Typical SR, 5 to 36 V, 8-Pin DIP (N8-8), Commercial, Pb-Free; Linear Technology Part Number: LT1225; Manufacturer: Linear Technology; PartNumber: LT1225CN8#PBF; Channels (#): 1; GBW (MHz) Typical: 150; Is (mA) Typical: 7; SR (V/us) Typical: 400; Vos (mV) Typical: 0.5; Vs Max (V): 36; Vs Min (V): 5; DatasheetVersion: Rev. A; PackageVersion: Rev I; PackageReference: LT-N8-8; PackageDescription: 8-Lead PDIP, Body 10.16 x 6.48 mm, Pitch 2.54 mm; Supplier 1: Digi-Key; Supplier Part Number 1: LT1225CN8#PBF-ND; RoHS: Pb-Free; Type: VFB; Mounting Technology: Through Hole; ComponentLink1Description: Manufacturer URL; ComponentLink1URL: http://www.linear.com/; ComponentLink2Description: Datasheet; ComponentLink2URL: http://cds.linear.com/docs/en/datasheet/lt1225.pdf; ComponentLink3Description: Package Specification; ComponentLink3URL: http://cds.linear.com/docs/en/packaging/05081510_I_N8.pdf
footprint LT-N8-8 (DIP, 8-Leads, Body 10.16x6.48mm, Pitch 2.54mm)
pins: 1 NULL (in), 2 -IN (in), 3 +IN (in), 4 V- (power), 5 NC, 6 OUT (out), 7 V+ (power), 8 NULL (in)

## LT1225CS8
designator U?
Single Channel, Operational Amplifier, Full Power Bandwidth 13MHz of +5V, 150 MHz Typical GBW, 400 V/us Typical SR, 5 to 36 V, 8-Pin SOIC (S8-8), Commercial; Linear Technology Part Number: LT1225; Manufacturer: Linear Technology; PartNumber: LT1225CS8; Channels (#): 1; GBW (MHz) Typical: 150; Is (mA) Typical: 7; SR (V/us) Typical: 400; Vos (mV) Typical: 0.5; Vs Max (V): 36; Vs Min (V): 5; DatasheetVersion: Rev. A; PackageVersion: Rev G; PackageReference: LT-S8-8; PackageDescription: 8-Pin Plastic Small Outline, Body 4.9 x 3.9 mm, Pitch 1.27 mm; Supplier 1: Digi-Key; Supplier Part Number 1: LT1225CS8-ND; Type: VFB; Mounting Technology: Surface Mount; ComponentLink1Description: Manufacturer URL; ComponentLink1URL: http://www.linear.com/; ComponentLink2Description: Datasheet; ComponentLink2URL: http://cds.linear.com/docs/en/datasheet/lt1225.pdf; ComponentLink3Description: Package Specification; ComponentLink3URL: http://cds.linear.com/docs/en/packaging/05081610_G_SO8.pdf
footprint LT-S8-8_N (SOIC, 8-Leads, Body 4.9x3.9mm, Pitch 1.27mm, IPC Medium Density)
footprint LT-S8-8_L (SOIC, 8-Leads, Body 4.9x3.9mm, Pitch 1.27mm, IPC High Density)
footprint LT-S8-8_M (SOIC, 8-Leads, Body 4.9x3.9mm, Pitch 1.27mm, IPC Low Density)
pins: 1 NULL (in), 2 -IN (in), 3 +IN (in), 4 V- (power), 5 NC, 6 OUT (out), 7 V+ (power), 8 NULL (in)

## LT1225CS8#PBF
designator U?
Single Channel, Operational Amplifier, Full Power Bandwidth 13MHz of +5V, 150 MHz Typical GBW, 400 V/us Typical SR, 5 to 36 V, 8-Pin SOIC (S8-8), Commercial, Pb-Free; Linear Technology Part Number: LT1225; Manufacturer: Linear Technology; PartNumber: LT1225CS8#PBF; Channels (#): 1; GBW (MHz) Typical: 150; Is (mA) Typical: 7; SR (V/us) Typical: 400; Vos (mV) Typical: 0.5; Vs Max (V): 36; Vs Min (V): 5; DatasheetVersion: Rev. A; PackageVersion: Rev G; PackageReference: LT-S8-8; PackageDescription: 8-Pin Plastic Small Outline, Body 4.9 x 3.9 mm, Pitch 1.27 mm; Supplier 1: Digi-Key; Supplier Part Number 1: LT1225CS8#PBF-ND; RoHS: Pb-Free; Type: VFB; Mounting Technology: Surface Mount; ComponentLink1Description: Manufacturer URL; ComponentLink1URL: http://www.linear.com/; ComponentLink2Description: Datasheet; ComponentLink2URL: http://cds.linear.com/docs/en/datasheet/lt1225.pdf; ComponentLink3Description: Package Specification; ComponentLink3URL: http://cds.linear.com/docs/en/packaging/05081610_G_SO8.pdf
footprint LT-S8-8_N (SOIC, 8-Leads, Body 4.9x3.9mm, Pitch 1.27mm, IPC Medium Density)
footprint LT-S8-8_L (SOIC, 8-Leads, Body 4.9x3.9mm, Pitch 1.27mm, IPC High Density)
footprint LT-S8-8_M (SOIC, 8-Leads, Body 4.9x3.9mm, Pitch 1.27mm, IPC Low Density)
pins: 1 NULL (in), 2 -IN (in), 3 +IN (in), 4 V- (power), 5 NC, 6 OUT (out), 7 V+ (power), 8 NULL (in)

## LT1225CS8#TR
designator U?
Single Channel, Operational Amplifier, Full Power Bandwidth 13MHz of +5V, 150 MHz Typical GBW, 400 V/us Typical SR, 5 to 36 V, 8-Pin SOIC (S8-8), Commercial, Reel; Linear Technology Part Number: LT1225; Manufacturer: Linear Technology; PartNumber: LT1225CS8#TR; Channels (#): 1; GBW (MHz) Typical: 150; Is (mA) Typical: 7; SR (V/us) Typical: 400; Vos (mV) Typical: 0.5; Vs Max (V): 36; Vs Min (V): 5; DatasheetVersion: Rev. A; PackageVersion: Rev G; PackageReference: LT-S8-8; PackageDescription: 8-Pin Plastic Small Outline, Body 4.9 x 3.9 mm, Pitch 1.27 mm; Supplier 1: Digi-Key; Supplier Part Number 1: LT1225CS8#TR-ND; Packing: Reel; Type: VFB; Mounting Technology: Surface Mount; ComponentLink1Description: Manufacturer URL; ComponentLink1URL: http://www.linear.com/; ComponentLink2Description: Datasheet; ComponentLink2URL: http://cds.linear.com/docs/en/datasheet/lt1225.pdf; ComponentLink3Description: Package Specification; ComponentLink3URL: http://cds.linear.com/docs/en/packaging/05081610_G_SO8.pdf
footprint LT-S8-8_N (SOIC, 8-Leads, Body 4.9x3.9mm, Pitch 1.27mm, IPC Medium Density)
footprint LT-S8-8_L (SOIC, 8-Leads, Body 4.9x3.9mm, Pitch 1.27mm, IPC High Density)
footprint LT-S8-8_M (SOIC, 8-Leads, Body 4.9x3.9mm, Pitch 1.27mm, IPC Low Density)
pins: 1 NULL (in), 2 -IN (in), 3 +IN (in), 4 V- (power), 5 NC, 6 OUT (out), 7 V+ (power), 8 NULL (in)

## LT1225CS8#TRPBF
designator U?
Single Channel, Operational Amplifier, Full Power Bandwidth 13MHz of +5V, 150 MHz Typical GBW, 400 V/us Typical SR, 5 to 36 V, 8-Pin SOIC (S8-8), Commercial, Pb-Free, Reel; Linear Technology Part Number: LT1225; Manufacturer: Linear Technology; PartNumber: LT1225CS8#TRPBF; Channels (#): 1; GBW (MHz) Typical: 150; Is (mA) Typical: 7; SR (V/us) Typical: 400; Vos (mV) Typical: 0.5; Vs Max (V): 36; Vs Min (V): 5; DatasheetVersion: Rev. A; PackageVersion: Rev G; PackageReference: LT-S8-8; PackageDescription: 8-Pin Plastic Small Outline, Body 4.9 x 3.9 mm, Pitch 1.27 mm; Supplier 1: Digi-Key; Supplier Part Number 1: LT1225CS8#TRPBF-ND; Packing: Reel; RoHS: Pb-Free; Type: VFB; Mounting Technology: Surface Mount; ComponentLink1Description: Manufacturer URL; ComponentLink1URL: http://www.linear.com/; ComponentLink2Description: Datasheet; ComponentLink2URL: http://cds.linear.com/docs/en/datasheet/lt1225.pdf; ComponentLink3Description: Package Specification; ComponentLink3URL: http://cds.linear.com/docs/en/packaging/05081610_G_SO8.pdf
footprint LT-S8-8_N (SOIC, 8-Leads, Body 4.9x3.9mm, Pitch 1.27mm, IPC Medium Density)
footprint LT-S8-8_L (SOIC, 8-Leads, Body 4.9x3.9mm, Pitch 1.27mm, IPC High Density)
footprint LT-S8-8_M (SOIC, 8-Leads, Body 4.9x3.9mm, Pitch 1.27mm, IPC Low Density)
pins: 1 NULL (in), 2 -IN (in), 3 +IN (in), 4 V- (power), 5 NC, 6 OUT (out), 7 V+ (power), 8 NULL (in)

## LT1226CN8
designator U?
Single Channel, Low Noise High Speed High Gain Operational Amplifier, 1000 MHz Typical GBW, 400 V/us Typical SR, 5 to 36 V, 8-Pin DIP (N8-8), Commercial; Linear Technology Part Number: LT1226; Manufacturer: Linear Technology; PartNumber: LT1226CN8; Channels (#): 1; GBW (MHz) Typical: 1000; Is (mA) Typical: 7; SR (V/us) Typical: 400; Vos (mV) Typical: 0.3; Vs Max (V): 36; Vs Min (V): 5; DatasheetVersion: Rev. 0; PackageVersion: Rev I; PackageReference: LT-N8-8; PackageDescription: 8-Lead PDIP, Body 10.16 x 6.48 mm, Pitch 2.54 mm; Supplier 1: Digi-Key; Supplier Part Number 1: LT1226CN8-ND; Type: VFB; Mounting Technology: Surface Mount; ComponentLink1Description: Manufacturer URL; ComponentLink1URL: http://www.linear.com/; ComponentLink2Description: Datasheet; ComponentLink2URL: http://cds.linear.com/docs/en/datasheet/lt1226.pdf; ComponentLink3Description: Package Specification; ComponentLink3URL: http://cds.linear.com/docs/en/packaging/05081510_I_N8.pdf
footprint LT-N8-8 (DIP, 8-Leads, Body 10.16x6.48mm, Pitch 2.54mm)
pins: 1 NULL (in), 2 -IN (in), 3 +IN (in), 4 V- (power), 5 NC, 6 OUT (out), 7 V+ (power), 8 NULL (in)

## LT1226CN8#PBF
designator U?
Single Channel, Low Noise High Speed High Gain Operational Amplifier, 1000 MHz Typical GBW, 400 V/us Typical SR, 5 to 36 V, 8-Pin DIP (N8-8), Commercial, Pb-Free; Linear Technology Part Number: LT1226; Manufacturer: Linear Technology; PartNumber: LT1226CN8#PBF; Channels (#): 1; GBW (MHz) Typical: 1000; Is (mA) Typical: 7; SR (V/us) Typical: 400; Vos (mV) Typical: 0.3; Vs Max (V): 36; Vs Min (V): 5; DatasheetVersion: Rev. 0; PackageVersion: Rev I; PackageReference: LT-N8-8; PackageDescription: 8-Lead PDIP, Body 10.16 x 6.48 mm, Pitch 2.54 mm; Supplier 1: Digi-Key; Supplier Part Number 1: LT1226CN8#PBF-ND; Supplier 2: Farnell; Supplier Part Number 2: 1330624; Supplier 3: Newark; Supplier Part Number 3: 57M2831; RoHS: Pb-Free; Type: VFB; Mounting Technology: Through Hole; ComponentLink1Description: Manufacturer URL; ComponentLink1URL: http://www.linear.com/; ComponentLink2Description: Datasheet; ComponentLink2URL: http://cds.linear.com/docs/en/datasheet/lt1226.pdf; ComponentLink3Description: Package Specification; ComponentLink3URL: http://cds.linear.com/docs/en/packaging/05081510_I_N8.pdf
footprint LT-N8-8 (DIP, 8-Leads, Body 10.16x6.48mm, Pitch 2.54mm)
pins: 1 NULL (in), 2 -IN (in), 3 +IN (in), 4 V- (power), 5 NC, 6 OUT (out), 7 V+ (power), 8 NULL (in)

## LT1226CS8
designator U?
Single Channel, Low Noise High Speed High Gain Operational Amplifier, 1000 MHz Typical GBW, 400 V/us Typical SR, 5 to 36 V, 8-Pin SOIC (S8-8), Commercial; Linear Technology Part Number: LT1226; Manufacturer: Linear Technology; PartNumber: LT1226CS8; Channels (#): 1; GBW (MHz) Typical: 1000; Is (mA) Typical: 7; SR (V/us) Typical: 400; Vos (mV) Typical: 0.3; Vs Max (V): 36; Vs Min (V): 5; DatasheetVersion: Rev. 0; PackageVersion: Rev G; PackageReference: LT-S8-8; PackageDescription: 8-Pin Plastic Small Outline, Body 4.9 x 3.9 mm, Pitch 1.27 mm; Supplier 1: Digi-Key; Supplier Part Number 1: LT1226CS8-ND; Type: VFB; Mounting Technology: Surface Mount; ComponentLink1Description: Manufacturer URL; ComponentLink1URL: http://www.linear.com/; ComponentLink2Description: Datasheet; ComponentLink2URL: http://cds.linear.com/docs/en/datasheet/lt1226.pdf; ComponentLink3Description: Package Specification; ComponentLink3URL: http://cds.linear.com/docs/en/packaging/05081610_G_SO8.pdf
footprint LT-S8-8_N (SOIC, 8-Leads, Body 4.9x3.9mm, Pitch 1.27mm, IPC Medium Density)
footprint LT-S8-8_L (SOIC, 8-Leads, Body 4.9x3.9mm, Pitch 1.27mm, IPC High Density)
footprint LT-S8-8_M (SOIC, 8-Leads, Body 4.9x3.9mm, Pitch 1.27mm, IPC Low Density)
pins: 1 NULL (in), 2 -IN (in), 3 +IN (in), 4 V- (power), 5 NC, 6 OUT (out), 7 V+ (power), 8 NULL (in)

## LT1226CS8#PBF
designator U?
Single Channel, Low Noise High Speed High Gain Operational Amplifier, 1000 MHz Typical GBW, 400 V/us Typical SR, 5 to 36 V, 8-Pin SOIC (S8-8), Commercial, Pb-Free; Linear Technology Part Number: LT1226; Manufacturer: Linear Technology; PartNumber: LT1226CS8#PBF; Channels (#): 1; GBW (MHz) Typical: 1000; Is (mA) Typical: 7; SR (V/us) Typical: 400; Vos (mV) Typical: 0.3; Vs Max (V): 36; Vs Min (V): 5; DatasheetVersion: Rev. 0; PackageVersion: Rev G; PackageReference: LT-S8-8; PackageDescription: 8-Pin Plastic Small Outline, Body 4.9 x 3.9 mm, Pitch 1.27 mm; Supplier 1: Digi-Key; Supplier Part Number 1: LT1226CS8#PBF-ND; Supplier 2: Newark; Supplier Part Number 2: 57M2833; RoHS: Pb-Free; Type: VFB; Mounting Technology: Surface Mount; ComponentLink1Description: Manufacturer URL; ComponentLink1URL: http://www.linear.com/; ComponentLink2Description: Datasheet; ComponentLink2URL: http://cds.linear.com/docs/en/datasheet/lt1226.pdf; ComponentLink3Description: Package Specification; ComponentLink3URL: http://cds.linear.com/docs/en/packaging/05081610_G_SO8.pdf
footprint LT-S8-8_N (SOIC, 8-Leads, Body 4.9x3.9mm, Pitch 1.27mm, IPC Medium Density)
footprint LT-S8-8_L (SOIC, 8-Leads, Body 4.9x3.9mm, Pitch 1.27mm, IPC High Density)
footprint LT-S8-8_M (SOIC, 8-Leads, Body 4.9x3.9mm, Pitch 1.27mm, IPC Low Density)
pins: 1 NULL (in), 2 -IN (in), 3 +IN (in), 4 V- (power), 5 NC, 6 OUT (out), 7 V+ (power), 8 NULL (in)

## LT1226CS8#TR
designator U?
Single Channel, Low Noise High Speed High Gain Operational Amplifier, 1000 MHz Typical GBW, 400 V/us Typical SR, 5 to 36 V, 8-Pin SOIC (S8-8), Commercial, Reel; Linear Technology Part Number: LT1226; Manufacturer: Linear Technology; PartNumber: LT1226CS8#TR; Channels (#): 1; GBW (MHz) Typical: 1000; Is (mA) Typical: 7; SR (V/us) Typical: 400; Vos (mV) Typical: 0.3; Vs Max (V): 36; Vs Min (V): 5; DatasheetVersion: Rev. 0; PackageVersion: Rev G; PackageReference: LT-S8-8; PackageDescription: 8-Pin Plastic Small Outline, Body 4.9 x 3.9 mm, Pitch 1.27 mm; Supplier 1: Digi-Key; Supplier Part Number 1: LT1226CS8#TR-ND; Packing: Reel; Type: VFB; Mounting Technology: Surface Mount; ComponentLink1Description: Manufacturer URL; ComponentLink1URL: http://www.linear.com/; ComponentLink2Description: Datasheet; ComponentLink2URL: http://cds.linear.com/docs/en/datasheet/lt1226.pdf; ComponentLink3Description: Package Specification; ComponentLink3URL: http://cds.linear.com/docs/en/packaging/05081610_G_SO8.pdf
footprint LT-S8-8_N (SOIC, 8-Leads, Body 4.9x3.9mm, Pitch 1.27mm, IPC Medium Density)
footprint LT-S8-8_L (SOIC, 8-Leads, Body 4.9x3.9mm, Pitch 1.27mm, IPC High Density)
footprint LT-S8-8_M (SOIC, 8-Leads, Body 4.9x3.9mm, Pitch 1.27mm, IPC Low Density)
pins: 1 NULL (in), 2 -IN (in), 3 +IN (in), 4 V- (power), 5 NC, 6 OUT (out), 7 V+ (power), 8 NULL (in)

## LT1226CS8#TRPBF
designator U?
Single Channel, Low Noise High Speed High Gain Operational Amplifier, 1000 MHz Typical GBW, 400 V/us Typical SR, 5 to 36 V, 8-Pin SOIC (S8-8), Commercial, Pb-Free, Reel; Linear Technology Part Number: LT1226; Manufacturer: Linear Technology; PartNumber: LT1226CS8#TRPBF; Channels (#): 1; GBW (MHz) Typical: 1000; Is (mA) Typical: 7; SR (V/us) Typical: 400; Vos (mV) Typical: 0.3; Vs Max (V): 36; Vs Min (V): 5; DatasheetVersion: Rev. 0; PackageVersion: Rev G; PackageReference: LT-S8-8; PackageDescription: 8-Pin Plastic Small Outline, Body 4.9 x 3.9 mm, Pitch 1.27 mm; Supplier 1: Digi-Key; Supplier Part Number 1: LT1226CS8#TRPBF-ND; Packing: Reel; RoHS: Pb-Free; Type: VFB; Mounting Technology: Surface Mount; ComponentLink1Description: Manufacturer URL; ComponentLink1URL: http://www.linear.com/; ComponentLink2Description: Datasheet; ComponentLink2URL: http://cds.linear.com/docs/en/datasheet/lt1226.pdf; ComponentLink3Description: Package Specification; ComponentLink3URL: http://cds.linear.com/docs/en/packaging/05081610_G_SO8.pdf
footprint LT-S8-8_N (SOIC, 8-Leads, Body 4.9x3.9mm, Pitch 1.27mm, IPC Medium Density)
footprint LT-S8-8_L (SOIC, 8-Leads, Body 4.9x3.9mm, Pitch 1.27mm, IPC High Density)
footprint LT-S8-8_M (SOIC, 8-Leads, Body 4.9x3.9mm, Pitch 1.27mm, IPC Low Density)
pins: 1 NULL (in), 2 -IN (in), 3 +IN (in), 4 V- (power), 5 NC, 6 OUT (out), 7 V+ (power), 8 NULL (in)

## LT1227CN8
designator U?
Single Channel, High Voltage CFA, 140 MHz Typical GBW, 1100 V/us Typical SR, 4 to 36 V, 8-Pin DIP (N8-8), Commercial; Linear Technology Part Number: LT1227; Manufacturer: Linear Technology; PartNumber: LT1227CN8; Channels (#): 1; GBW (MHz) Typical: 140; Is (mA) Typical: 10; SR (V/us) Typical: 1100; Vos (mV) Typical: 3; Vs Max (V): 36; Vs Min (V): 4; PackageVersion: Rev I; PackageReference: LT-N8-8; PackageDescription: 8-Lead PDIP, Body 10.16 x 6.48 mm, Pitch 2.54 mm; Supplier 1: Digi-Key; Supplier Part Number 1: LT1227CN8-ND; Type: CFA; Mounting Technology: Surface Mount; ComponentLink1Description: Manufacturer URL; ComponentLink1URL: http://www.linear.com/; ComponentLink2Description: Datasheet; ComponentLink2URL: http://cds.linear.com/docs/en/datasheet/1227fb.pdf; ComponentLink3Description: Package Specification; ComponentLink3URL: http://cds.linear.com/docs/en/packaging/05081510_I_N8.pdf
footprint LT-N8-8 (DIP, 8-Leads, Body 10.16x6.48mm, Pitch 2.54mm)
pins: 1 NULL (in), 2 -IN (in), 3 +IN (in), 4 V- (power), 5 NULL (in), 6 OUT (out), 7 V+ (power), 8 SHDN (in)

## LT1227CN8#PBF
designator U?
Single Channel, High Voltage CFA, 140 MHz Typical GBW, 1100 V/us Typical SR, 4 to 36 V, 8-Pin DIP (N8-8), Commercial, Pb-Free; Linear Technology Part Number: LT1227; Manufacturer: Linear Technology; PartNumber: LT1227CN8#PBF; Channels (#): 1; GBW (MHz) Typical: 140; Is (mA) Typical: 10; SR (V/us) Typical: 1100; Vos (mV) Typical: 3; Vs Max (V): 36; Vs Min (V): 4; PackageVersion: Rev I; PackageReference: LT-N8-8; PackageDescription: 8-Lead PDIP, Body 10.16 x 6.48 mm, Pitch 2.54 mm; Supplier 1: Digi-Key; Supplier Part Number 1: LT1227CN8#PBF-ND; Supplier 2: Farnell; Supplier Part Number 2: 9560300; RoHS: Pb-Free; Type: CFA; Mounting Technology: Through Hole; ComponentLink1Description: Manufacturer URL; ComponentLink1URL: http://www.linear.com/; ComponentLink2Description: Datasheet; ComponentLink2URL: http://cds.linear.com/docs/en/datasheet/1227fb.pdf; ComponentLink3Description: Package Specification; ComponentLink3URL: http://cds.linear.com/docs/en/packaging/05081510_I_N8.pdf
footprint LT-N8-8 (DIP, 8-Leads, Body 10.16x6.48mm, Pitch 2.54mm)
pins: 1 NULL (in), 2 -IN (in), 3 +IN (in), 4 V- (power), 5 NULL (in), 6 OUT (out), 7 V+ (power), 8 SHDN (in)

## LT1227CS8
designator U?
Single Channel, High Voltage CFA, 140 MHz Typical GBW, 1100 V/us Typical SR, 4 to 36 V, 8-Pin SOIC (S8-8), Commercial; Linear Technology Part Number: LT1227; Manufacturer: Linear Technology; PartNumber: LT1227CS8; Channels (#): 1; GBW (MHz) Typical: 140; Is (mA) Typical: 10; SR (V/us) Typical: 1100; Vos (mV) Typical: 3; Vs Max (V): 36; Vs Min (V): 4; PackageVersion: Rev G; PackageReference: LT-S8-8; PackageDescription: 8-Pin Plastic Small Outline, Body 4.9 x 3.9 mm, Pitch 1.27 mm; Supplier 1: Digi-Key; Supplier Part Number 1: LT1227CS8-ND; Type: CFA; Mounting Technology: Surface Mount; ComponentLink1Description: Manufacturer URL; ComponentLink1URL: http://www.linear.com/; ComponentLink2Description: Datasheet; ComponentLink2URL: http://cds.linear.com/docs/en/datasheet/1227fb.pdf; ComponentLink3Description: Package Specification; ComponentLink3URL: http://cds.linear.com/docs/en/packaging/05081610_G_SO8.pdf
footprint LT-S8-8_N (SOIC, 8-Leads, Body 4.9x3.9mm, Pitch 1.27mm, IPC Medium Density)
footprint LT-S8-8_L (SOIC, 8-Leads, Body 4.9x3.9mm, Pitch 1.27mm, IPC High Density)
footprint LT-S8-8_M (SOIC, 8-Leads, Body 4.9x3.9mm, Pitch 1.27mm, IPC Low Density)
pins: 1 NULL (in), 2 -IN (in), 3 +IN (in), 4 V- (power), 5 NULL (in), 6 OUT (out), 7 V+ (power), 8 SHDN (in)